# EAGLE library part STBC02AJR (library STBC02AJR)
STMICROELECTRONICS - STBC02AJR - Battery Charger, 1 Cell Li-Ion, Li-Pol Battery, 5.4V in, 4.45V / 450 mA charge, Flip-Chip-30 Source: Datasheet <https://www.st.com/resource/en/datasheet/stbc02.pdf>
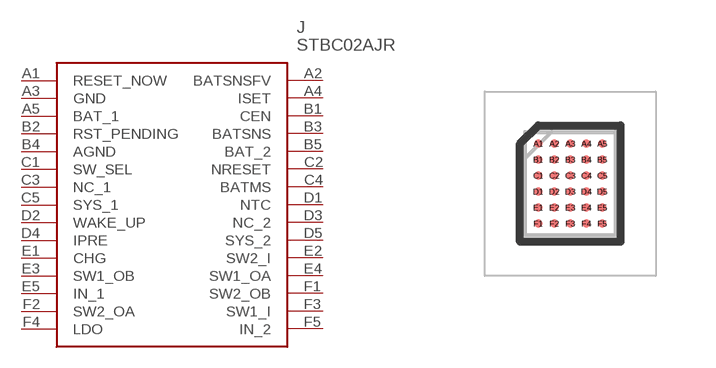
[diagram p0: symbol with the pads of BGA30C40P5X6_225X259X60; footprint BGA30C40P5X6_225X259X60]

Designator prefix J

## STBC02AJR (Description: STMICROELECTRONICS - STBC02AJR - Battery Charger, 1 Cell Li-Ion, Li-Pol Battery, 5.4V in, 4.45V / 450 mA charge, Flip-Chip-30; Height: 0.6mm; Manufacturer_Name: STMicroelectronics; Manufacturer_Part_Number: STBC02AJR; Mouser_Part_Number: 511-STBC02AJR; Mouser_Price-Stock: https://www.mouser.com/Search/Refine.aspx?Keyword=511-STBC02AJR)  [BGA30C40P5X6_225X259X60]
A1  RESET_NOW
A2  BATSNSFV
A3  GND
A4  ISET
A5  BAT_1
B1  CEN
B2  RST_PENDING
B3  BATSNS
B4  AGND
B5  BAT_2
C1  SW_SEL
C2  NRESET
C3  NC_1
C4  BATMS
C5  SYS_1
D1  NTC
D2  WAKE_UP
D3  NC_2
D4  IPRE
D5  SYS_2
E1  CHG
E2  SW2_I
E3  SW1_OB
E4  SW1_OA
E5  IN_1
F1  SW2_OB
F2  SW2_OA
F3  SW1_I
F4  LDO
F5  IN_2

## Footprint BGA30C40P5X6_225X259X60 (pad centres in mm)
Flip Chip 30 (2.59 x 2.25 mm)
smd 0.208 x 0.208: A1 -0.8,1; A2 -0.4,1; A3 0,1; A4 0.4,1; A5 0.8,1; B1 -0.8,0.6; B2 -0.4,0.6; B3 0,0.6; B4 0.4,0.6; B5 0.8,0.6; C1 -0.8,0.2; C2 -0.4,0.2; C3 0,0.2; C4 0.4,0.2; C5 0.8,0.2; D1 -0.8,-0.2; D2 -0.4,-0.2; D3 0,-0.2; D4 0.4,-0.2; D5 0.8,-0.2; E1 -0.8,-0.6; E2 -0.4,-0.6; E3 0,-0.6; E4 0.4,-0.6; E5 0.8,-0.6; F1 -0.8,-1; F2 -0.4,-1; F3 0,-1; F4 0.4,-1; F5 0.8,-1